# EAGLE library part XMC1000-38-SINGLE (library INF-XMC)
XMC1000 38 pin Single symbol
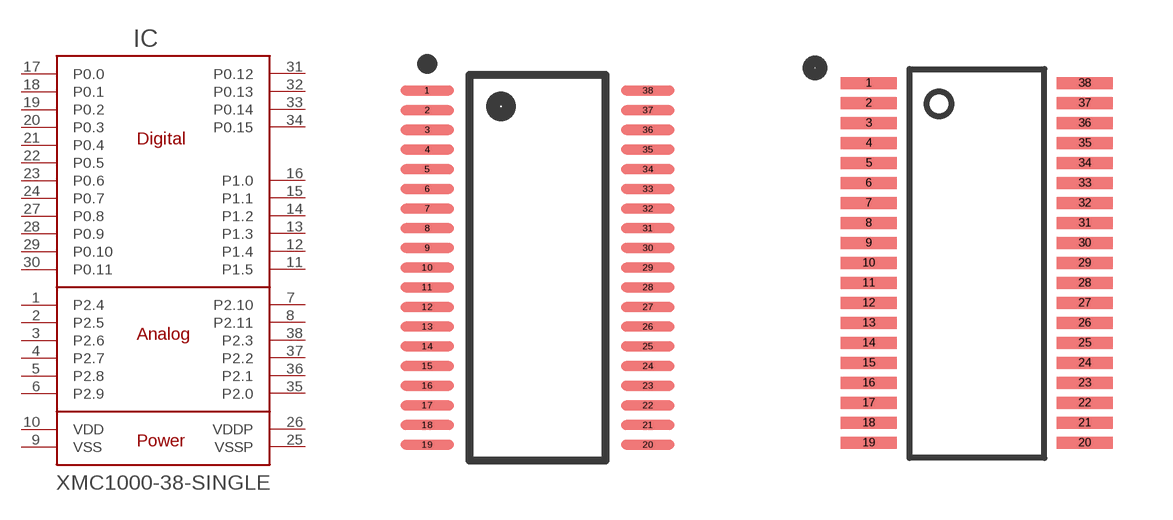
[diagram p6: symbol with the pads of TSSOP-38-1.35; footprints TSSOP-38-1.35, TSSOP-38-1.4]

Designator prefix IC

## XMC1000-38-SINGLE-1.35  [TSSOP-38-1.35]
1  P2.4  in
2  P2.5  in
3  P2.6  in
4  P2.7  in
5  P2.8  in
6  P2.9  in
7  P2.10
8  P2.11
9  VSS  pwr
10  VDD  pwr
11  P1.5
12  P1.4
13  P1.3
14  P1.2
15  P1.1
16  P1.0
17  P0.0
18  P0.1
19  P0.2
20  P0.3
21  P0.4
22  P0.5
23  P0.6
24  P0.7
25  VSSP  pwr
26  VDDP  pwr
27  P0.8
28  P0.9
29  P0.10
30  P0.11
31  P0.12
32  P0.13
33  P0.14
34  P0.15
35  P2.0
36  P2.1
37  P2.2  in
38  P2.3  in

## XMC1000-38-SINGLE-1.4  [TSSOP-38-1.4]
Pads as for TSSOP-38-1.35

## XMC1000-38-SINGLE-1.6  [TSSOP-38-1.6]
Pads as for TSSOP-38-1.35

## Footprint TSSOP-38-1.35 (pad centres in mm)
TSSOP-38 pitch 0.5 mm, pads 0.25 x 1.35 mm
smd 1.35 x 0.25: 1 -2.8,4.5; 2 -2.8,4; 3 -2.8,3.5; 4 -2.8,3; 5 -2.8,2.5; 6 -2.8,2; 7 -2.8,1.5; 8 -2.8,1; 9 -2.8,0.5; 10 -2.8,0; 11 -2.8,-0.5; 12 -2.8,-1; 13 -2.8,-1.5; 14 -2.8,-2; 15 -2.8,-2.5; 16 -2.8,-3; 17 -2.8,-3.5; 18 -2.8,-4; 19 -2.8,-4.5; 20 2.8,-4.5; 21 2.8,-4; 22 2.8,-3.5; 23 2.8,-3; 24 2.8,-2.5; 25 2.8,-2; 26 2.8,-1.5; 27 2.8,-1; 28 2.8,-0.5; 29 2.8,0; 30 2.8,0.5; 31 2.8,1; 32 2.8,1.5; 33 2.8,2; 34 2.8,2.5; 35 2.8,3; 36 2.8,3.5; 37 2.8,4; 38 2.8,4.5

## Footprint TSSOP-38-1.4 (pad centres in mm)
TSSOP38 Package pin pitch 0.5 mm pad 0.3 x 1.4 mm
smd 1.4 x 0.3: 1 -2.7,4.5; 2 -2.7,4; 3 -2.7,3.5; 4 -2.7,3; 5 -2.7,2.5; 6 -2.7,2; 7 -2.7,1.5; 8 -2.7,1; 9 -2.7,0.5; 10 -2.7,0; 11 -2.7,-0.5; 12 -2.7,-1; 13 -2.7,-1.5; 14 -2.7,-2; 15 -2.7,-2.5; 16 -2.7,-3; 17 -2.7,-3.5; 18 -2.7,-4; 19 -2.7,-4.5; 20 2.7,-4.5; 21 2.7,-4; 22 2.7,-3.5; 23 2.7,-3; 24 2.7,-2.5; 25 2.7,-2; 26 2.7,-1.5; 27 2.7,-1; 28 2.7,-0.5; 29 2.7,0; 30 2.7,0.5; 31 2.7,1; 32 2.7,1.5; 33 2.7,2; 34 2.7,2.5; 35 2.7,3; 36 2.7,3.5; 37 2.7,4; 38 2.7,4.5

## Footprint TSSOP-38-1.6 (pad centres in mm)
TSSOP-38 pitch 0.5 mm, pads 0.3 x 1.6 mm
smd 1.6 x 0.3: 1 -2.8,4.5; 2 -2.8,4; 3 -2.8,3.5; 4 -2.8,3; 5 -2.8,2.5; 6 -2.8,2; 7 -2.8,1.5; 8 -2.8,1; 9 -2.8,0.5; 10 -2.8,0; 11 -2.8,-0.5; 12 -2.8,-1; 13 -2.8,-1.5; 14 -2.8,-2; 15 -2.8,-2.5; 16 -2.8,-3; 17 -2.8,-3.5; 18 -2.8,-4; 19 -2.8,-4.5; 20 2.8,-4.5; 21 2.8,-4; 22 2.8,-3.5; 23 2.8,-3; 24 2.8,-2.5; 25 2.8,-2; 26 2.8,-1.5; 27 2.8,-1; 28 2.8,-0.5; 29 2.8,0; 30 2.8,0.5; 31 2.8,1; 32 2.8,1.5; 33 2.8,2; 34 2.8,2.5; 35 2.8,3; 36 2.8,3.5; 37 2.8,4; 38 2.8,4.5